# Altium footprint library INF-TSLP-3-9_V.PcbLib: 1 footprints
Each footprint in its own frame and in the unit in brackets; x right, y up, seen from the top. Pads: shape width x height; smd on the part's side, far side on the other; paste and mask are expansions set on the pad; w line width, h text height; cw(c..) or ccw(c..) is an arc to the next point about the centre after c.
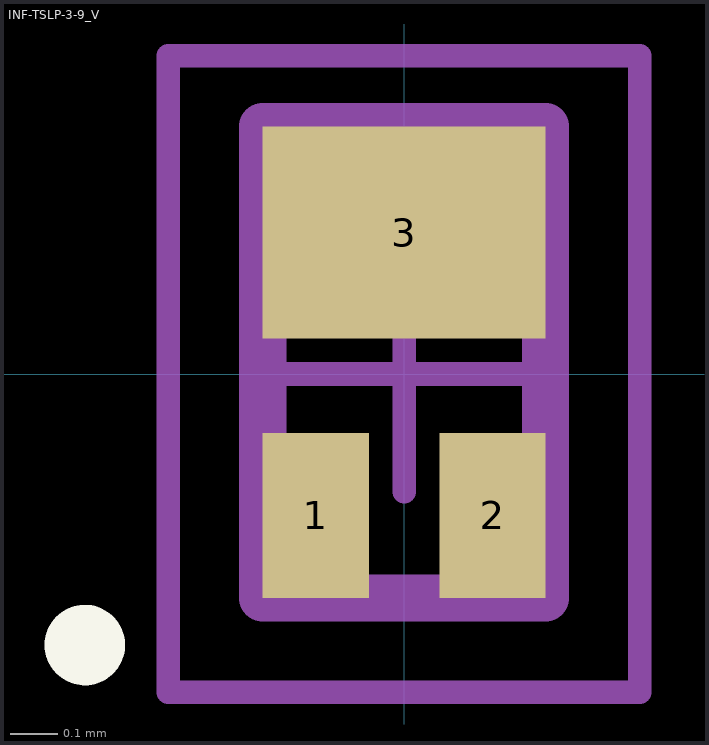
[diagram p0: the footprint, top view; thin cyan lines are the x and y axes]

## INF-TSLP-3-9_V [mm] "TSLP, 3-Leads, Body 1x0.6 mm"
height 0.32
pads (3):
  rect 0.225x0.35 smd: 1(-0.188,-0.3) 2(0.188,-0.3)
  rect 0.6x0.45 smd: 3(0,0.3)
Top Overlay:
  circle w0.1: c-0.677,-0.575 r0.035
Mechanical 13:
  lines w0.1: -0.3,-0.475 -0.3,0.525 0.3,0.525 0.3,-0.475 -0.3,-0.475
Mechanical 15:
  lines w0.05: -0.25,0 0.25,0 ; 0,-0.25 0,0.25 ; -0.5,-0.675 -0.5,0.675 0.5,0.675 0.5,-0.675 -0.5,-0.675
3D body: height 0.32, standoff 0, extent -0.3,-0.475 0.3,0.525